# EAGLE library part 750318383 (library WE-OLTI)
WE-OLTI Offline Flyback Transformers Characteristics Nominal input voltage: 85–265 VAC (120–375 VDC) Small size Low leakage inductance Multiple-output options Operating temperature: −40 °C to +125 °C Isolation Voltage: 2 kVAC to 5 kVAC Options for fixed frequency or quasi-resonant mode operation Most products meet reinforced insulation Applications Industrial controls USB chargers Utility metering devices Process controls Factory automation Security systems Garage door opener auxiliary supplies Home appliances Especially designed for several ICs from Texas Instruments Details see: www.we-online.com/en/components/products/WE-OLTI Created by Ella 2025-02-06 2025 (C) Würth Elektronik
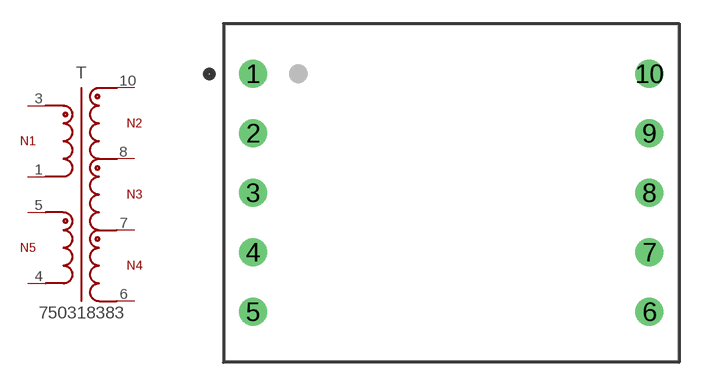
[diagram p24: symbol with the pads of WE-OLTI_EFD20_L21.5W29H12.45; footprint WE-OLTI_EFD20_L21.5W29H12.45]

Designator prefix T

## 750318383 (AUXILIARY_VOLTAGE_1: 15 V; CATEGORY: Transformers; DATASHEET: https://www.we-online.com/redexpert/spec/750318383?ae; HEIGHT: 12.45 mm; INDUCTANCE: 680 uH; INPUT_VOLTAGE: 85 - 265 V (AC); INSULATION_TEST_VOLTAGE: 3750 V (AC); LENGTH: 21.5 mm; MANUFACTURER: Würth Elektronik; MOUNT: THT; MPN: 750318383; OUTPUT_CURRENT_1: 300 mA; OUTPUT_CURRENT_2: 2000 mA; OUTPUT_CURRENT_3: 300 mA; OUTPUT_VOLTAGE_1: 12 V; OUTPUT_VOLTAGE_2: 7 V; OUTPUT_VOLTAGE_3: -15 V; SATURATION_CURRENT: 1.4 A; SIZE: EFD20; SWITCHING-FREQUENCY: 66kHz; TURNS_RATIO: 29.33:1:1.67:3:3; VALUE: 680 uH; WIDTH: 29 mm)  [WE-OLTI_EFD20_L21.5W29H12.45]
1  1  pas
3  3  pas
4  4  pas
5  5  pas
6  6  pas
7  7  pas
8  8  pas
10  10  pas

## Footprint WE-OLTI_EFD20_L21.5W29H12.45 (pad centres in mm)
WE-OLTI Offline Flyback Transformers Size:EFD20,THT,10pins LXWXH=21.5X29X12.45mm Bobbin: 070-5982
drill 1.2: 1 -12.7,7.62; 2 -12.7,3.81; 3 -12.7,0; 4 -12.7,-3.81; 5 -12.7,-7.62; 6 12.7,-7.62; 7 12.7,-3.81; 8 12.7,0; 9 12.7,3.81; 10 12.7,7.62